# Altium schematic symbol library 504050-0491.Schlib: 1 symbol
Pins are listed as number, name and electrical type; pins without a type are passive.

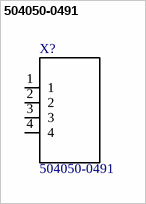
[diagram p0: symbol 504050-0491]

## 504050-0491
designator X?
Wire-To-Board Connector, Pico-Lock 504050 Series, Surface Mount, Header, 4, 1.5 mm; MF: Molex; Price: None; Package: None; Availability: Unavailable; MP: 504050-0491; SnapEDA_Link: https://www.snapeda.com/parts/504050-0491/Molex/view-part/?ref=snap; Value: *
footprint MOLEX_504050-0491
pins: 1, 2, 3, 4